# EAGLE library part AM7968* (library AMD_Taxi)
AMD Taxi Chip Transmitter
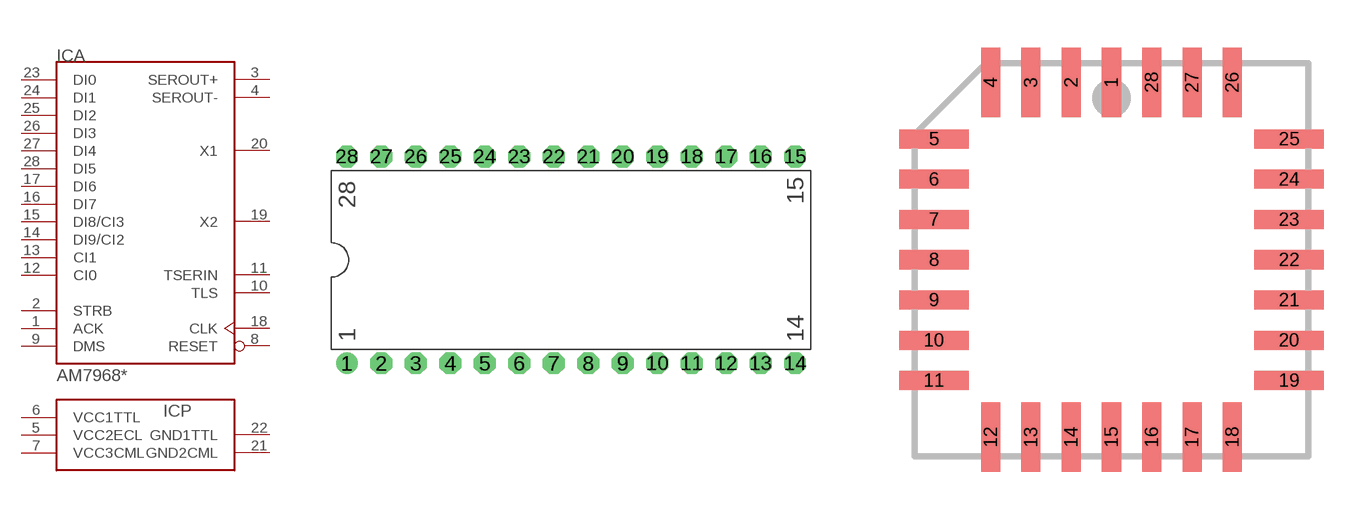
[diagram p6: symbol with the pads of DIP28-6; footprints DIP28-6, PLCC28S]

Designator prefix IC; gates A=AM7968 P=AM7968PW

## AM7968-125PC, AM7968-175PC  [DIP28-6]
1  A:ACK  out
2  A:STRB  in
3  A:SEROUT+  out
4  A:SEROUT-  out
5  P:VCC2ECL  pwr
6  P:VCC1TTL  pwr
7  P:VCC3CML  pwr
8  A:RESET  in
9  A:DMS  in
10  A:TLS  in
11  A:TSERIN  in
12  A:CI0  in
13  A:CI1  in
14  A:DI9/CI2  in
15  A:DI8/CI3  in
16  A:DI7  in
17  A:DI6  in
18  A:CLK  out
19  A:X2  in
20  A:X1  in
21  P:GND2CML  pwr
22  P:GND1TTL  pwr
23  A:DI0  in
24  A:DI1  in
25  A:DI2  in
26  A:DI3  in
27  A:DI4  in
28  A:DI5  in

## AM7968-125DC, AM7968-175DC  [DIP28-6]
Pads as for DIP28-6

## AM7968-125JC, AM7968-175JC  [PLCC28S]
Pads as for DIP28-6

## AM7968-125/LKC  [LCC28]
Pads as for DIP28-6

## AM7968-125/LMC  [LCC28]
Pads as for DIP28-6

## AM7968-125/DKC  [DIP28-6]
Pads as for DIP28-6

## AM7968-125/DMC  [DIP28-6]
Pads as for DIP28-6

## Footprint DIP28-6 (pad centres in mm)
drill 0.406 pad 1.6 round: 1 -16.51,-7.62
drill 0.406 pad 1.6 octagon: 2 -13.97,-7.62; 3 -11.43,-7.62; 4 -8.89,-7.62; 5 -6.35,-7.62; 6 -3.81,-7.62; 7 -1.27,-7.62; 8 1.27,-7.62; 9 3.81,-7.62; 10 6.35,-7.62; 11 8.89,-7.62; 12 11.43,-7.62; 13 13.97,-7.62; 14 16.51,-7.62; 15 16.51,7.62; 16 13.97,7.62; 17 11.43,7.62; 18 8.89,7.62; 19 6.35,7.62; 20 3.81,7.62; 21 1.27,7.62; 22 -1.27,7.62; 23 -3.81,7.62; 24 -6.35,7.62; 25 -8.89,7.62; 26 -11.43,7.62; 27 -13.97,7.62; 28 -16.51,7.62

## Footprint PLCC28S (pad centres in mm)
smd 0.6 x 2.2: 1 0,5.6; 2 -1.27,5.6; 3 -2.54,5.6; 4 -3.81,5.6; 12 -3.81,-5.6; 13 -2.54,-5.6; 14 -1.27,-5.6; 15 0,-5.6; 16 1.27,-5.6; 17 2.54,-5.6; 18 3.81,-5.6; 26 3.81,5.6; 27 2.54,5.6; 28 1.27,5.6
smd 2.2 x 0.6: 5 -5.6,3.81; 6 -5.6,2.54; 7 -5.6,1.27; 8 -5.6,0; 9 -5.6,-1.27; 10 -5.6,-2.54; 11 -5.6,-3.81; 19 5.6,-3.81; 20 5.6,-2.54; 21 5.6,-1.27; 22 5.6,0; 23 5.6,1.27; 24 5.6,2.54; 25 5.6,3.81

## Footprint LCC28 (pad centres in mm)
smd 0.8 x 3.4: 1 0,5.1
smd 0.8 x 2: 2 -1.27,5.8; 3 -2.54,5.8; 4 -3.81,5.8; 12 -3.81,-5.8; 13 -2.54,-5.8; 14 -1.27,-5.8; 15 0,-5.8; 16 1.27,-5.8; 17 2.54,-5.8; 18 3.81,-5.8; 26 3.81,5.8; 27 2.54,5.8; 28 1.27,5.8
smd 2 x 0.8: 5 -5.8,3.81; 6 -5.8,2.54; 7 -5.8,1.27; 8 -5.8,0; 9 -5.8,-1.27; 10 -5.8,-2.54; 11 -5.8,-3.81; 19 5.8,-3.81; 20 5.8,-2.54; 21 5.8,-1.27; 22 5.8,0; 23 5.8,1.27; 24 5.8,2.54; 25 5.8,3.81